# Altium integrated library stratos.IntLib: 36 symbols (part 1 of 2)
Pins are listed as number, name and electrical type; pins without a type are passive.

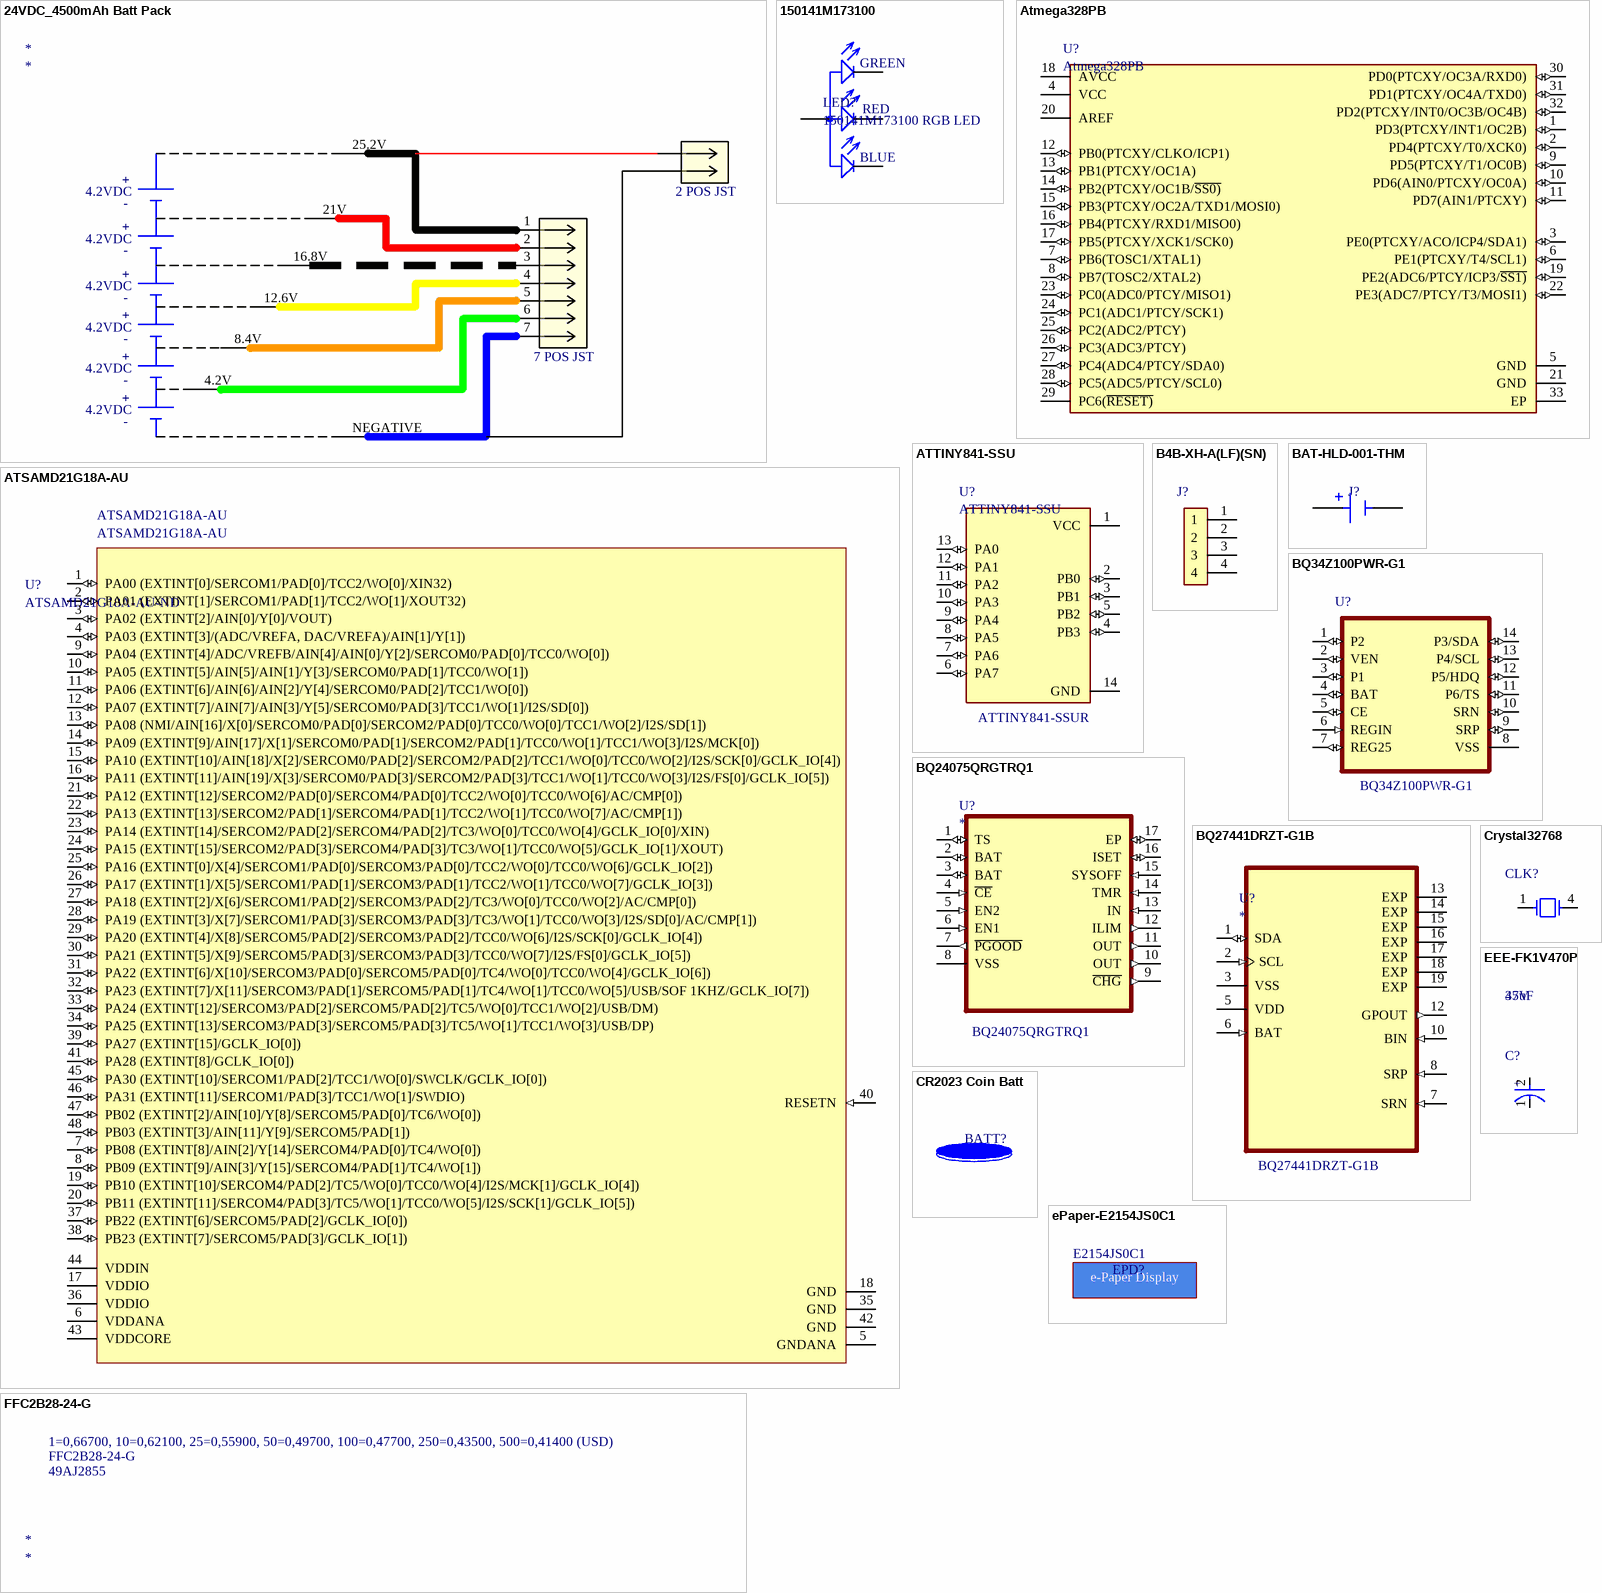
[diagram p0: symbols 24VDC_4500mAh Batt Pack to FFC2B28-24-G]

## 24VDC_4500mAh Batt Pack
designator *
pins: 1, 2, 3, 4, 4.2V, 5, 6, 7, 8, 8.4V, 9, 12.6V, 16.8V, 21V, 25.2V, NEGATIVE
text: +; 4.2VDC; 2 POS JST; -; 7 POS JST

## 150141M173100
designator LED?, comment 150141M173100 RGB LED
Standard LEDs - SMD WL-SFTW SMDBiClr Top WL-SFTW; Manufacturer: Wurth Electronics; Color: Blue,Green,Red; Viewing Angle: 120°; Lens Style: Clear,Round; Wavelength: 470nm; Forward Current: 30mA; Luminous Intensity: 230mcd; Test Current: 20mA; Forward Voltage: 3.2V; Supplier 1: Digi-Key; RoHS: Yes; Category: LEDs; Stock 1: 32966; Mount: Surface Mount; Case/Package: 1411; Number of Pins: 4; Case Code (Metric): 3528; Case Code (Imperial): 1411; Min Operating Temperature: -40°C; Max Operating Temperature: 85°C; Package Quantity: 2000; Packaging: Tape and Reel; Dominant Wavelength: 470nm; Length: 3.5mm; Width: 2.8mm; Height: 1.9mm; REACH SVHC: Unknown; RoHS Compliant: Yes; ComponentLink1URL: https://datasheet.ciiva.com/29562/150141m173100-29562961.pdf?src-supplier=Digi-Key; ComponentLink1Description: https://datasheet.ciiva.com/29562/150141m173100-29562961.pdf?src-supplier=Digi-Key; ComponentLink2URL: https://datasheet.ciiva.com/29278/759471-da-01-en-smd-topled-rgb-150141m173100-29278963.pdf?src-supplier=Conrad; ComponentLink2Description: https://datasheet.ciiva.com/29278/759471-da-01-en-smd-topled-rgb-150141m173100-29278963.pdf?src-supplier=Conrad; ComponentLink3URL: https://datasheet.ciiva.com/22653/1911491-22653029.pdf?src-supplier=Element14; ComponentLink3Description: https://datasheet.ciiva.com/22653/1911491-22653029.pdf?src-supplier=Element14; Supplier Part Number 1: 732-4998-1-ND; Manufacturer Part Number: 150141M173100; Pricing 1: 1=0,47000, 50=0,45900, 100=0,40000, 500=0,33300 (USD); Link: https://www.digikey.com/en/products/detail/w%C3%BCrth-elektronik/150141M173100/4489960?s=N4IgTCBcDaIIwFYAMcAscCycDsBmOSSIAugL5A
footprint 150141M173100 (RGB LED 3528 SMD)
pins: 1 A, 2 B_C, 3 R_C, 4 G_C
text: GREEN; RED; BLUE

## Atmega328PB
designator U?
IC MCU 8BIT 32KB FLASH 32VFQFN; Manufacturer: Microchip; Manufacturer Part Number: ATMEGA328PB-MUR; Supplier 1: Avnet; RoHS: Yes; Category: Microcontrollers; Stock 1: 58; RoHS Compliant: Yes; ComponentLink1URL: http://ww1.microchip.com/downloads/en/DeviceDoc/40001907A.pdf?src-supplier=Farnell; ComponentLink1Description: http://ww1.microchip.com/downloads/en/DeviceDoc/40001907A.pdf?src-supplier=Farnell; ComponentLink2URL: http://ww1.microchip.com/downloads/en/DeviceDoc/40001907A.pdf?src-supplier=Newark; ComponentLink2Description: http://ww1.microchip.com/downloads/en/DeviceDoc/40001907A.pdf?src-supplier=Newark; ComponentLink3URL: http://www.microchip.com/mymicrochip/filehandler.aspx?ddocname=en589666&src-supplier=Digi-Key; ComponentLink3Description: http://www.microchip.com/mymicrochip/filehandler.aspx?ddocname=en589666&src-supplier=Digi-Key; Pricing 1: 1=1,33000, 25=1,22000, 100=1,11000 (USD); Supplier Part Number 1: 41AH8334; Link: https://www.digikey.com/es/products/detail/microchip-technology/ATMEGA328PB-MUR/5638755?s=N4IgjCBcoLQExVAYygFwE4FcCmAaEA9lANogCsIAugL7X4KSkCCAKgLICiA4kwMxwAOAAoAhKtSA
footprint Atmega328PB
pins: 1 PD3(PTCXY/INT1/OC2B) (io), 2 PD4(PTCXY/T0/XCK0) (io), 3 PE0(PTCXY/ACO/ICP4/SDA1) (io), 4 VCC (power), 5 GND (power), 6 PE1(PTCXY/T4/SCL1) (io), 7 PB6(TOSC1/XTAL1) (io), 8 PB7(TOSC2/XTAL2) (io), 9 PD5(PTCXY/T1/OC0B) (io), 10 PD6(AIN0/PTCXY/OC0A) (io), 11 PD7(AIN1/PTCXY) (io), 12 PB0(PTCXY/CLKO/ICP1) (io), 13 PB1(PTCXY/OC1A) (io), 14 PB2(PTCXY/OC1B/~{SS0)} (io), 15 PB3(PTCXY/OC2A/TXD1/MOSI0) (io), 16 PB4(PTCXY/RXD1/MISO0) (io), 17 PB5(PTCXY/XCK1/SCK0) (io), 18 AVCC (power), 19 PE2(ADC6/PTCY/ICP3/~{SS1)} (io), 20 AREF (power), 21 GND (power), 22 PE3(ADC7/PTCY/T3/MOSI1) (io), 23 PC0(ADC0/PTCY/MISO1) (io), 24 PC1(ADC1/PTCY/SCK1) (io), 25 PC2(ADC2/PTCY) (io), 26 PC3(ADC3/PTCY) (io), 27 PC4(ADC4/PTCY/SDA0) (io), 28 PC5(ADC5/PTCY/SCL0) (io), 29 PC6(~{RESET)}, 30 PD0(PTCXY/OC3A/RXD0) (io), 31 PD1(PTCXY/OC4A/TXD0) (io), 32 PD2(PTCXY/INT0/OC3B/OC4B) (io), 33 EP (power)

## ATSAMD21G18A-AU
designator U?, comment ATSAMD21G18A-AU-ND  Supplier Part Number 1: ATSAMD21G18A-AU
CORTEX-M0+, 256KB Flash, 32KB SRAM, Usb, Dma, T&r - 48TQFP Ind Temp, Green, 1.6-3.6V, 48MHZ; Manufacturer: Microchip / Atmel; Interface: I2C,SPI,UART,USART,LIN,USB,I2S; Number of I/Os: 38; Oscillator Type: Internal; Peripherals: Brown-out Detect/Reset,POR,PWM,WDT,DMA; Core Architecture: ARM; Number of Timers/Counters: 6; Min Supply Voltage: 1.62V; Max Supply Voltage: 3.63V; Data Bus Width: 32b; Watchdog Timer: Yes; Operating Supply Voltage: 3.3V; Supplier 1: Arrow Electronics; RoHS: Yes; Category: Microcontrollers; Mount: Surface Mount; Case/Package: TQFP; Number of Pins: 48; Contact Plating: Tin,Matte; Min Operating Temperature: -40°C; Max Operating Temperature: 85°C; Packaging: Tray; Frequency: 48MHz; Memory Type: FLASH; Memory Size: 256KB; RAM Size: 32KB; Number of Programmable I/O: 38; Max Frequency: 48MHz; RoHS Compliant: Yes; REACH SVHC: No SVHC; Lead Free: Lead Free; ComponentLink1URL: https://datasheet.ciiva.com/46427/1807566-46427631.pdf?src-supplier=Element14; ComponentLink1Description: https://datasheet.ciiva.com/46427/1807566-46427631.pdf?src-supplier=Element14; Link: https://www.digikey.com/en/products/detail/microchip-technology/ATSAMD21G18A-AU/5056473; Manufacturer Part Number: ATSAMD21G18A-AU
footprint ATSAMD21G18A-AU-ND (IC MCU 32BIT 256KB FLASH 48TQFP)
pins: 1 PA00 (EXTINT[0]/SERCOM1/PAD[0]/TCC2/WO[0]/XIN32) (io), 2 PA01 (EXTINT[1]/SERCOM1/PAD[1]/TCC2/WO[1]/XOUT32) (io), 3 PA02 (EXTINT[2]/AIN[0]/Y[0]/VOUT) (io), 4 PA03 (EXTINT[3]/(ADC/VREFA, DAC/VREFA)/AIN[1]/Y[1]) (io), 5 GNDANA (power) "Ground for the analog power domain", 6 VDDANA (power) "Analog supply voltage", 7 PB08 (EXTINT[8]/AIN[2]/Y[14]/SERCOM4/PAD[0]/TC4/WO[0]) (io), 8 PB09 (EXTINT[9]/AIN[3]/Y[15]/SERCOM4/PAD[1]/TC4/WO[1]) (io), 9 PA04 (EXTINT[4]/ADC/VREFB/AIN[4]/AIN[0]/Y[2]/SERCOM0/PAD[0]/TCC0/WO[0]) (io), 10 PA05 (EXTINT[5]/AIN[5]/AIN[1]/Y[3]/SERCOM0/PAD[1]/TCC0/WO[1]) (io), 11 PA06 (EXTINT[6]/AIN[6]/AIN[2]/Y[4]/SERCOM0/PAD[2]/TCC1/WO[0]) (io), 12 PA07 (EXTINT[7]/AIN[7]/AIN[3]/Y[5]/SERCOM0/PAD[3]/TCC1/WO[1]/I2S/SD[0]) (io), 13 PA08 (NMI/AIN[16]/X[0]/SERCOM0/PAD[0]/SERCOM2/PAD[0]/TCC0/WO[0]/TCC1/WO[2]/I2S/SD[1]) (io), 14 PA09 (EXTINT[9]/AIN[17]/X[1]/SERCOM0/PAD[1]/SERCOM2/PAD[1]/TCC0/WO[1]/TCC1/WO[3]/I2S/MCK[0]) (io), 15 PA10 (EXTINT[10]/AIN[18]/X[2]/SERCOM0/PAD[2]/SERCOM2/PAD[2]/TCC1/WO[0]/TCC0/WO[2]/I2S/SCK[0]/GCLK_IO[4]) (io), 16 PA11 (EXTINT[11]/AIN[19]/X[3]/SERCOM0/PAD[3]/SERCOM2/PAD[3]/TCC1/WO[1]/TCC0/WO[3]/I2S/FS[0]/GCLK_IO[5]) (io), 17 VDDIO (power) "Digital supply voltage", 18 GND (power) "Ground", 19 PB10 (EXTINT[10]/SERCOM4/PAD[2]/TC5/WO[0]/TCC0/WO[4]/I2S/MCK[1]/GCLK_IO[4]) (io), 20 PB11 (EXTINT[11]/SERCOM4/PAD[3]/TC5/WO[1]/TCC0/WO[5]/I2S/SCK[1]/GCLK_IO[5]) (io), 21 PA12 (EXTINT[12]/SERCOM2/PAD[0]/SERCOM4/PAD[0]/TCC2/WO[0]/TCC0/WO[6]/AC/CMP[0]) (io), 22 PA13 (EXTINT[13]/SERCOM2/PAD[1]/SERCOM4/PAD[1]/TCC2/WO[1]/TCC0/WO[7]/AC/CMP[1]) (io), 23 PA14 (EXTINT[14]/SERCOM2/PAD[2]/SERCOM4/PAD[2]/TC3/WO[0]/TCC0/WO[4]/GCLK_IO[0]/XIN) (io), 24 PA15 (EXTINT[15]/SERCOM2/PAD[3]/SERCOM4/PAD[3]/TC3/WO[1]/TCC0/WO[5]/GCLK_IO[1]/XOUT) (io), 25 PA16 (EXTINT[0]/X[4]/SERCOM1/PAD[0]/SERCOM3/PAD[0]/TCC2/WO[0]/TCC0/WO[6]/GCLK_IO[2]) (io), 26 PA17 (EXTINT[1]/X[5]/SERCOM1/PAD[1]/SERCOM3/PAD[1]/TCC2/WO[1]/TCC0/WO[7]/GCLK_IO[3]) (io), 27 PA18 (EXTINT[2]/X[6]/SERCOM1/PAD[2]/SERCOM3/PAD[2]/TC3/WO[0]/TCC0/WO[2]/AC/CMP[0]) (io), 28 PA19 (EXTINT[3]/X[7]/SERCOM1/PAD[3]/SERCOM3/PAD[3]/TC3/WO[1]/TCC0/WO[3]/I2S/SD[0]/AC/CMP[1]) (io), 29 PA20 (EXTINT[4]/X[8]/SERCOM5/PAD[2]/SERCOM3/PAD[2]/TCC0/WO[6]/I2S/SCK[0]/GCLK_IO[4]) (io), 30 PA21 (EXTINT[5]/X[9]/SERCOM5/PAD[3]/SERCOM3/PAD[3]/TCC0/WO[7]/I2S/FS[0]/GCLK_IO[5]) (io), 31 PA22 (EXTINT[6]/X[10]/SERCOM3/PAD[0]/SERCOM5/PAD[0]/TC4/WO[0]/TCC0/WO[4]/GCLK_IO[6]) (io), 32 PA23 (EXTINT[7]/X[11]/SERCOM3/PAD[1]/SERCOM5/PAD[1]/TC4/WO[1]/TCC0/WO[5]/USB/SOF 1KHZ/GCLK_IO[7]) (io), 33 PA24 (EXTINT[12]/SERCOM3/PAD[2]/SERCOM5/PAD[2]/TC5/WO[0]/TCC1/WO[2]/USB/DM) (io), 34 PA25 (EXTINT[13]/SERCOM3/PAD[3]/SERCOM5/PAD[3]/TC5/WO[1]/TCC1/WO[3]/USB/DP) (io), 35 GND (power) "Ground", 36 VDDIO (power) "Digital supply voltage", 37 PB22 (EXTINT[6]/SERCOM5/PAD[2]/GCLK_IO[0]) (io), 38 PB23 (EXTINT[7]/SERCOM5/PAD[3]/GCLK_IO[1]) (io), 39 PA27 (EXTINT[15]/GCLK_IO[0]) (io), 40 RESETN (in) "Reset pin", 41 PA28 (EXTINT[8]/GCLK_IO[0]) (io), 42 GND (power) "Ground", 43 VDDCORE (power) "Core supply voltage / external decoupling pin", 44 VDDIN (power), 45 PA30 (EXTINT[10]/SERCOM1/PAD[2]/TCC1/WO[0]/SWCLK/GCLK_IO[0]) (io), 46 PA31 (EXTINT[11]/SERCOM1/PAD[3]/TCC1/WO[1]/SWDIO) (io), 47 PB02 (EXTINT[2]/AIN[10]/Y[8]/SERCOM5/PAD[0]/TC6/WO[0]) (io), 48 PB03 (EXTINT[3]/AIN[11]/Y[9]/SERCOM5/PAD[1]) (io)

## ATTINY841-SSU
designator U?  Manufacturer Part Number: ATTINY841-SSUR
MCU 8-bit ATtiny AVR CISC 8KB Flash 1.8V/2.5V/3.3V/5V 14-Pin SOIC W T/R; Manufacturer: Microchip / Atmel; Interface: I2C,SPI,UART,USART; Number of I/Os: 12; Frequency: 16MHz; Oscillator Type: Internal; Peripherals: PWM; Min Supply Voltage: 1.7V; Max Supply Voltage: 5.5V; RAM Size: 512B; Number of Timers/Counters: 3; Data Bus Width: 8b; Watchdog Timer: Yes; Supplier 1: Avnet; RoHS: Yes; Category: Microcontrollers; Stock 1: 348; Mount: Surface Mount; Case/Package: SOIC; Number of Pins: 14; Contact Plating: Tin,Matte; Weight: 0.011923oz; Min Operating Temperature: -40°C; Max Operating Temperature: 85°C; Packaging: Tape and Reel; Memory Type: FLASH; Memory Size: 8KB; Core Architecture: AVR; Package Quantity: 3000; Number of Programmable I/O: 12; Max Frequency: 16MHz; RoHS Compliant: Yes; REACH SVHC: No SVHC; ComponentLink1URL: https://datasheet.ciiva.com/29721/4099r-832bitmcuprodguide-e-us-090513-online-29721855.pdf?src-supplier=Digi-Key; ComponentLink1Description: https://datasheet.ciiva.com/29721/4099r-832bitmcuprodguide-e-us-090513-online-29721855.pdf?src-supplier=Digi-Key; Supplier Part Number 1: 41AH8366; Pricing 1: 1=1,03000 (USD); Link: https://www.digikey.com/es/products/detail/microchip-technology/ATTINY841-SSUR/4437427?s=N4IgTCBcDaIIIBUEEkByBNAHAFgIwFoBlQgVQCUQBdAXyA
footprint ATTINY841-SSU (IC MCU 8BIT 8KB FLASH 14SOIC)
pins: 1 VCC (power), 2 PB0 (io), 3 PB1 (io), 4 PB3 (io), 5 PB2 (io), 6 PA7 (io), 7 PA6 (io), 8 PA5 (io), 9 PA4 (io), 10 PA3 (io), 11 PA2 (io), 12 PA1 (io), 13 PA0 (io), 14 GND (power)

## B4B-XH-A(LF)(SN)
designator J?
JST (JAPAN SOLDERLESS TERMINALS) - B4B-XH-A (LF)(SN) - Wire-To-Board Connector, Vertical, 2.5 mm, 4 Contacts, Header, XH Series, Through Hole, 1 Rows; Insulation Resistance: 1GR; Current Rating: 3A; Contact Resistance: 20mR; Gender: Male; Number of Positions: 4; Max Voltage Rating (AC): 250V; Connector Type: Male Pin; Pitch: 2.5mm; Wire/Cable Gauge: 22AWG; Supplier 1: Arrow Electronics; Manufacturer: JST; RoHS: Yes; Category: FFC / FPC; Mount: Through Hole; Contact Plating: Tin,Copper,Lead; Contact Material: Brass; Color: Natural; Housing Material: Polyamide; Housing Color: White; Material: Polyamide; Min Operating Temperature: -25°C; Max Operating Temperature: 85°C; Termination: Press-Fit; Series: XH; Number of Rows: 1; Packaging: Bulk; Orientation: Straight; Max Current Rating: 3A; Package Quantity: 500; Number of Contacts: 4; Contact Type: Male Pin; Voltage Rating (AC): 250V; Voltage Rating: 250V; Max Voltage Rating (DC): 250V; Length: 12.4mm; Depth: 5.75mm; Lead Pitch: 2.5mm; REACH SVHC: No SVHC; Lead Free: Lead Free; ComponentLink1URL: https://datasheet.ciiva.com/26894/getdatasheetpartid-455616-26894787.pdf?src-supplier=Verical; ComponentLink1Description: https://datasheet.ciiva.com/26894/getdatasheetpartid-455616-26894787.pdf?src-supplier=Verical; ComponentLink2URL: https://datasheet.ciiva.com/16203/b4b-xh-alfsn-16203642.pdf?src-supplier=Future+Electronics; ComponentLink2Description: https://datasheet.ciiva.com/16203/b4b-xh-alfsn-16203642.pdf?src-supplier=Future+Electronics; ComponentLink3URL: https://datasheet.ciiva.com/26924/getdatasheetpartid-640571-26924035.pdf?src-supplier=Verical; ComponentLink3Description: https://datasheet.ciiva.com/26924/getdatasheetpartid-640571-26924035.pdf?src-supplier=Verical; ComponentLink4URL: https://datasheet.ciiva.com/726/exh-726404.pdf?src-supplier=Digi-Key; ComponentLink4Description: https://datasheet.ciiva.com/726/exh-726404.pdf?src-supplier=Digi-Key; Manufacturer Part Number: B4B-XH-A(LF)(SN); Supplier Part Number 1: B4B-XH-A (LF)(SN); Link: https://www.digikey.com/es/products/detail/jst-sales-america-inc/B4B-XH-A-LF-SN/1651047?s=N4IgTCBcDaIEIBY4FoAaAJZBBAFAGQDEBKHAZQDkiQBdAXyA
footprint B4B-XH-A(LF)(SN) (CONN HEADER VERT 4POS 2.5MM)
pins: 1, 2, 3, 4

## BAT-HLD-001-THM
designator J?
BATTERY RETAINER COIN PC PIN; Manufacturer: Linx; Manufacturer Part Number: BAT-HLD-001-THM; Number of Cells: 1; Supplier 1: Digi-Key; RoHS: Yes; Category: Uncategorized; Stock 1: 22994; Mount: Through Hole,PCB; Package Quantity: 1000; Termination: PC Pin; Series: -; Packaging: Bulk; Lead Free: Lead Free; ComponentLink1URL: https://datasheet.ciiva.com/4/bat-hld-001-thm-4036.pdf?src-supplier=Digi-Key; ComponentLink1Description: https://datasheet.ciiva.com/4/bat-hld-001-thm-4036.pdf?src-supplier=Digi-Key; ComponentLink2URL: https://datasheet.ciiva.com/4642/bat-hld-001-thm20diagram-201675-4642582.pdf?src-supplier=Mouser; ComponentLink2Description: https://datasheet.ciiva.com/4642/bat-hld-001-thm20diagram-201675-4642582.pdf?src-supplier=Mouser; Pricing 1: 1=0,29000, 10=0,27800, 25=0,26600, 100=0,24100, 250=0,23200, 500=0,22200, 1000=0,20300, 2000=0,19000, 5000=0,17600 (USD); Supplier Part Number 1: BAT-HLD-001-THM-ND; Link: https://www.digikey.com/es/products/detail/linx-technologies-inc/BAT-HLD-001-THM/3044009?s=N4IgTCBcDaIEIEEAqBaAEgGQCIoAy4EYUk0BZEAXQF8g
footprint BAT-HLD-001-THM (BATTERY RETAINER COIN PC PIN)
pins: N, P1 P, P2 P, P3 P, P4 P

## BQ34Z100PWR-G1
designator U?  Manufacturer Part Number: BQ34Z100PWR-G1
IC BATT MGMT LIION/LPO4 14TSSOP; Manufacturer: Texas Instruments; Interface: I2C; Operating Supply Voltage: 4.5V; Supplier 1: Digi-Key; RoHS: Yes; Category: Battery Management; Mount: Surface Mount; Case/Package: TSSOP; Number of Pins: 14; Contact Plating: Gold; Weight: 0.004949oz; Min Operating Temperature: -40°C; Max Operating Temperature: 85°C; Packaging: Tape and Reel; Package Quantity: 2000; Lead Free: Lead Free; RoHS Compliant: Yes; ComponentLink1URL: http://www.ti.com/lit/ds/symlink/bq34z100-g1.pdf?src-supplier=Digi-Key; ComponentLink1Description: http://www.ti.com/lit/ds/symlink/bq34z100-g1.pdf?src-supplier=Digi-Key; ComponentLink2URL: http://www.ti.com/general/docs/lit/getliterature.tsp?genericPartNumber=BQ34Z100-G1&&fileType=pdf&src-supplier=Avnet; ComponentLink2Description: http://www.ti.com/general/docs/lit/getliterature.tsp?genericPartNumber=BQ34Z100-G1&&fileType=pdf&src-supplier=Avnet; ComponentLink3URL: http://www.ti.com/lit/gpn/bq34z100-g1?src-supplier=Mouser; ComponentLink3Description: http://www.ti.com/lit/gpn/bq34z100-g1?src-supplier=Mouser; Supplier Part Number 1: 296-39949-6-ND; Pricing 1: 1=4,33000, 10=3,88500, 25=3,67280, 100=3,18320, 250=3,01992, 500=2,70978, 1000=2,69500 (USD); Link: https://www.digikey.com/en/products/detail/texas-instruments/BQ34Z100PWR-G1/5140731?s=N4IgTCBcDaIEIEUDMAWAWgRgAxYAoHUAlAWgHEMQBdAXyA
footprint BQ34Z100PWR-G1 (Fuel Gauge)
pins: 1 P2 (io), 2 VEN (io), 3 P1 (io), 4 BAT (io), 5 CE (io), 6 REGIN (in), 7 REG25 (io), 8 VSS (power), 9 SRP (io), 10 SRN (io), 11 P6/TS (io), 12 P5/HDQ (io), 13 P4/SCL (io), 14 P3/SDA (io)

## BQ24075QRGTRQ1
designator U?  Manufacturer Part Number: BQ24075QRGTRQ1
IC BATTERY MGMT LI-ION 16-QFN; Manufacturer: Texas Instruments; Output Voltage: 4.2V; Max Supply Voltage: 6.4V; Output Current: 1.5A; Number of Cells: 1; Interface: USB; Fault Protection: Over Voltage,Over Temperature,Short Circuit,Reverse Current; Battery Chemistry: LITHIUM-ION; Supplier 1: Digi-Key; RoHS: Yes; Category: Battery Management; Mount: Surface Mount; Case/Package: QFN; Number of Pins: 16; Contact Plating: Gold; Min Operating Temperature: -40°C; Max Operating Temperature: 125°C; Packaging: Tape and Reel; Package Quantity: 3000; Max Charge Current: 1.5A; Battery Pack Voltage: 4.2V; Series: -; Lead Free: Lead Free; RoHS Compliant: Yes; ComponentLink1URL: https://datasheet.ciiva.com/29609/bq24075-q1-29609824.pdf?src-supplier=Digi-Key; ComponentLink1Description: https://datasheet.ciiva.com/29609/bq24075-q1-29609824.pdf?src-supplier=Digi-Key; ComponentLink2URL: https://datasheet.ciiva.com/12237/slusau3b-128558-12237294.pdf?src-supplier=Mouser; ComponentLink2Description: https://datasheet.ciiva.com/12237/slusau3b-128558-12237294.pdf?src-supplier=Mouser; Supplier Part Number 1: 296-36557-1-ND; Pricing 1: 1=2,87000, 10=2,58100, 25=2,43520, 100=2,07490, 250=1,94828, 500=1,70474, 1000=1,60825 (USD); Link: https://www.digikey.com/en/products/detail/BQ24075QRGTRQ1/296-36557-1-ND/4341266?itemSeq=375639473
footprint BQ24075QRGTRQ1 (Charger IC Lithium Ion 16-VQFN (3x3))
pins: 1 TS (io), 2 BAT (io), 3 BAT (io), 4 ~{CE} (in), 5 EN2 (in), 6 EN1 (in), 7 ~{PGOOD} (out), 8 VSS (power), 9 ~{CHG} (out), 10 OUT (out), 11 OUT (out), 12 ILIM (out), 13 IN (in), 14 TMR (in), 15 SYSOFF (in), 16 ISET (io), 17 EP (io)

## BQ27441DRZT-G1B
designator U?  Manufacturer Part Number: BQ27441DRZT-G1B
TEXAS INSTRUMENTS - BQ27441DRZT-G1B - Li-Ion, LiMn2PO4 Battery Fuel Gauge, 2.45 V to 4.5 V supply, I2C interface, SON-12; Number of Cells: 1; Min Supply Voltage: 2.45V; Max Supply Voltage: 4.5V; Output Voltage: 1.8V; Operating Supply Current: 93uA; Capacity: 8000mAh; Output Current: 500uA; Supplier 1: Digi-Key; Manufacturer: Texas Instruments; RoHS: Yes; Category: Battery Management; Stock 1: 1013; Mount: Surface Mount; Number of Pins: 12; Contact Plating: Gold; Min Operating Temperature: -40°C; Max Operating Temperature: 85°C; Package Quantity: 250; Packaging: Tape and Reel; Interface: I2C; REACH SVHC: No SVHC; Lead Free: Lead Free; RoHS Compliant: Yes; ComponentLink1URL: https://datasheet.ciiva.com/46405/1795843-46405045.pdf?src-supplier=Element14; ComponentLink1Description: https://datasheet.ciiva.com/46405/1795843-46405045.pdf?src-supplier=Element14; Link: https://www.digikey.com/en/products/detail/BQ27441DRZT-G1B/296-37272-1-ND/4733021?itemSeq=375639468; Pricing 1: 1=3,10000, 10=2,78700, 25=2,62880, 100=2,23970 (USD); Supplier Part Number 1: 296-37272-1-ND
footprint BQ27441DRZT-G1B (IC FUEL GAUGE LI-ION 1CELL 12SON)
pins: 1 SDA (io), 2 SCL (in), 3 VSS (power), 5 VDD (power), 6 BAT (in), 7 SRN (in), 8 SRP (in), 10 BIN (in), 12 GPOUT (out), 13 EXP (power), 14 EXP (power), 15 EXP (power), 16 EXP (power), 17 EXP (power), 18 EXP (power), 19 EXP (power)

## CR2023 Coin Batt
designator BATT?
CR2032 Series Ø 20 mm 3V 225mAh Non-Rechargeable Lithium Coin Cell Battery; Manufacturer: Panasonic BSG; Number of Cells: 1; Battery Size: 2032; Battery Type: PRIMARY; Supplier 1: Mouser; RoHS: Yes; Category: Passive Components; Mount: External; Weight: 0.1oz; Material: Lithium; Min Operating Temperature: -30°C; Max Operating Temperature: 60°C; Package Quantity: 200; Capacity: 225mAh; Packaging: Tray; Series: CR2032; Chemistry/Technology: Lithium; Voltage Rating: 3V; Battery Chemistry: LITHIUM; Output Voltage: 3V; Voltage: 3V; Voltage Rating (DC): 3V; Diameter: 20mm; Height: 0.13inch; Radiation Hardening: No; Lead Free: Lead Free; RoHS Compliant: Yes; ComponentLink1URL: https://datasheet.ciiva.com/2/crseries-datasheets-merged-2903.pdf?src-supplier=Digi-Key; ComponentLink1Description: https://datasheet.ciiva.com/2/crseries-datasheets-merged-2903.pdf?src-supplier=Digi-Key; ComponentLink2URL: https://datasheet.ciiva.com/2981/aaa4000ce51-2981326.pdf?src-supplier=Avnet; ComponentLink2Description: https://datasheet.ciiva.com/2981/aaa4000ce51-2981326.pdf?src-supplier=Avnet; ComponentLink3URL: https://datasheet.ciiva.com/12070/crseries-datasheets-merged-462862-12070381.pdf?src-supplier=Mouser; ComponentLink3Description: https://datasheet.ciiva.com/12070/crseries-datasheets-merged-462862-12070381.pdf?src-supplier=Mouser; ComponentLink4URL: https://datasheet.ciiva.com/16459/aaa4000ce51-16459422.pdf?src-supplier=Avnet+Asia; ComponentLink4Description: https://datasheet.ciiva.com/16459/aaa4000ce51-16459422.pdf?src-supplier=Avnet+Asia; Pricing 1: 1=0,34000, 10=0,28100, 50=0,28100, 100=0,21700, 1000=0,19500, 10000=0,18100 (USD); Supplier Part Number 1: 658-CR2032; Manufacturer Part Number: CR2032; Link: https://www.digikey.com/es/products/detail/maxell-batteries/MAXELL-CR2032-TS-1/13283094
footprint CR2032 BATT (CR2032 Coin batt)

## Crystal32768
designator CLK?
Crystal 0.032768MHz ±20ppm (Tol) 6pF Flexural 50000Ohm 4-Pin SMD T/R; Manufacturer: Citizen; Manufacturer Part Number: CM200C32768DZBT; ESR (Equivalent Series Resistance): 50R; Frequency: 32.768kHz; Capacitance: 6E-12F; Supplier 1: Digi-Key; RoHS: Yes; Category: Crystals; Stock 1: 43050; Number of Pins: 4; Min Operating Temperature: -40°C; Max Operating Temperature: 85°C; Load Capacitance: 6pF; Frequency Tolerance: 20ppm; Resistance: 50R; Lead Free: Lead Free; RoHS Compliant: Yes; ComponentLink1URL: https://media.digikey.com/pdf/Data%20Sheets/Citizen%20PDFs/KHz_Crystal_PNG.pdf?src-supplier=Digi-Key; ComponentLink1Description: https://media.digikey.com/pdf/Data%20Sheets/Citizen%20PDFs/KHz_Crystal_PNG.pdf?src-supplier=Digi-Key; ComponentLink2URL: http://cfd.citizen.co.jp/english/prod-tech/product/pdf/datasheet_TF/CM200C_CM250C_E.pdf?src-supplier=Digi-Key; ComponentLink2Description: http://cfd.citizen.co.jp/english/prod-tech/product/pdf/datasheet_TF/CM200C_CM250C_E.pdf?src-supplier=Digi-Key; ComponentLink3URL: http://www.farnell.com/datasheets/2687884.pdf?src-supplier=Newark; ComponentLink3Description: http://www.farnell.com/datasheets/2687884.pdf?src-supplier=Newark; Supplier Part Number 1: 300-8739-1-ND; Pricing 1: 1=0,79000, 10=0,66000, 50=0,59400, 100=0,52800, 500=0,50160, 1000=0,42240 (USD); Link: https://www.digikey.com/es/products/detail/citizen-finedevice-co-ltd/CM200C32768DZBT/2108108?s=N4IgTCBcDaIMIFkwAZlwMxgOwDYAcAIgFoBCAKiALoC%2BQA
footprint Crystal32768
pins: 1, 4

## EEE-FK1V470P
designator C?  Capacitance: 47uF  Voltage: 35V
Capacitor 47 uF 35 VDC, EEEFK1V470P, Panasonic Automotive & Industrial Systems; Dielectric Material: Aluminium; Tolerance: 20%; Ripple Current: 240mA; Polarity: Polar; Life (Hours): 2000Hour; ESR (Equivalent Series Resistance): 360mR; Leakage Current: 3uA; Supplier 1: Future Electronics; Manufacturer: Panasonic; RoHS: Yes; Category: Aluminum Electrolytic Capacitors; Stock 1: 165; Mount: Surface Mount,PCB; Case/Package: Radial; Number of Pins: 2; Material: Aluminium; Contact Plating: Tin; Min Operating Temperature: -55°C; Max Operating Temperature: 105°C; Packaging: Tape and Reel; Voltage Rating: 35V; Package Quantity: 1000; Termination: SMD/SMT; Ripple Current (AC): 240mA; Voltage Rating (DC): 35V; Series: FK; Construction: Cylindrical; Diameter: 6.3mm; Length: 5.8mm; Width: 7.8mm; Height: 5.8mm; Height - Seated (Max): 0.24inch; Radiation Hardening: No; RoHS Compliant: Yes; REACH SVHC: No SVHC; Lead Free: Lead Free; ComponentLink1URL: https://datasheet.ciiva.com/11777/0900766b80e4e8b0-11777384.pdf?src-supplier=RSComponents; ComponentLink1Description: https://datasheet.ciiva.com/11777/0900766b80e4e8b0-11777384.pdf?src-supplier=RSComponents; ComponentLink2URL: https://datasheet.ciiva.com/34302/1358354-34302248.pdf?src-supplier=Jameco; ComponentLink2Description: https://datasheet.ciiva.com/34302/1358354-34302248.pdf?src-supplier=Jameco; ComponentLink3URL: https://datasheet.ciiva.com/29313/443478-da-01-en-smd-elko-vfk-d-47-uf-35v-29313582.pdf?src-supplier=Conrad; ComponentLink3Description: https://datasheet.ciiva.com/29313/443478-da-01-en-smd-elko-vfk-d-47-uf-35v-29313582.pdf?src-supplier=Conrad; ComponentLink4URL: https://datasheet.ciiva.com/10327/aba0000ce120-10327226.pdf?src-supplier=Avnet; ComponentLink4Description: https://datasheet.ciiva.com/10327/aba0000ce120-10327226.pdf?src-supplier=Avnet; ComponentLink5URL: https://datasheet.ciiva.com/5949/1676921-5949767.pdf?src-supplier=Farnell; ComponentLink5Description: https://datasheet.ciiva.com/5949/1676921-5949767.pdf?src-supplier=Farnell; ComponentLink6URL: https://datasheet.ciiva.com/2983/aba0000ce120-2983977.pdf?src-supplier=Avnet; ComponentLink6Description: https://datasheet.ciiva.com/2983/aba0000ce120-2983977.pdf?src-supplier=Avnet; ComponentLink7URL: https://datasheet.ciiva.com/24022/aba0000ce120-24022141.pdf?src-supplier=Mouser; ComponentLink7Description: https://datasheet.ciiva.com/24022/aba0000ce120-24022141.pdf?src-supplier=Mouser; ComponentLink8URL: https://datasheet.ciiva.com/46388/1676921-46388169.pdf?src-supplier=Element14; ComponentLink8Description: https://datasheet.ciiva.com/46388/1676921-46388169.pdf?src-supplier=Element14; ComponentLink9URL: https://datasheet.ciiva.com/16449/aba0000ce120-16449455.pdf?src-supplier=Future+Electronics; ComponentLink9Description: https://datasheet.ciiva.com/16449/aba0000ce120-16449455.pdf?src-supplier=Future+Electronics; ComponentLink10URL: https://datasheet.ciiva.com/14592/70068178-14592806.pdf?src-supplier=Allied+Electronics; ComponentLink10Description: https://datasheet.ciiva.com/14592/70068178-14592806.pdf?src-supplier=Allied+Electronics; ComponentLink11URL: https://datasheet.ciiva.com/46376/1676921-46376749.pdf?src-supplier=Element14; ComponentLink11Description: https://datasheet.ciiva.com/46376/1676921-46376749.pdf?src-supplier=Element14; ComponentLink12URL: https://datasheet.ciiva.com/48524/fk-eng-tds-48524111.pdf?src-supplier=Distrelec; ComponentLink12Description: https://datasheet.ciiva.com/48524/fk-eng-tds-48524111.pdf?src-supplier=Distrelec; ComponentLink13URL: https://datasheet.ciiva.com/14605/70258115-14605496.pdf?src-supplier=Allied+Electronics; ComponentLink13Description: https://datasheet.ciiva.com/14605/70258115-14605496.pdf?src-supplier=Allied+Electronics; ComponentLink14URL: https://datasheet.ciiva.com/14608/70258115-14608444.pdf?src-supplier=Allied+Electronics; ComponentLink14Description: https://datasheet.ciiva.com/14608/70258115-14608444.pdf?src-supplier=Allied+Electronics; Link: https://www.digikey.com/es/products/detail/panasonic-electronic-components/EEE-FK1V470P/766010?s=N4IgTCBcDaIKIILQDEDSBGAagFgOwAYAFEAXQF8g; Supplier Part Number 1: 5098671; Manufacturer Part Number: EEEFK1V470P; Pricing 1: 1=0,42500, 50=0,32500, 100=0,30500, 250=0,29000, 500=0,27500 (USD); Impedance: 360mR
footprint EEE-FK1V470P (CAP ALUM 47UF 20% 35V SMD)
pins: 1 C, 2 A
text: +

## ePaper-E2154JS0C1
designator EPD?, comment E2154JS0C1
1.54" Epd, Spectra, W.itc; Manufacturer: Pervasive Displays; Supplier 1: Digi-Key; RoHS: No; Stock 1: 290; Pricing 1: 1=4,96000 (USD); Supplier Part Number 1: 1452-E2154JS0C1-ND; Link: https://www.digikey.com/en/products/detail/pervasive-displays/E2154JS0C1/13572395?s=N4IgTCBcDaIKJgIwFYAsApAygBgMKJAF0BfIA; Manufacturer Part Number: E2154JS0C1
text: e-Paper Display

## FFC2B28-24-G
designator *  Supplier Part Number 1: 49AJ2855  Manufacturer Part Number: FFC2B28-24-G  Pricing 1: 1=0,66700, 10=0,62100, 25=0,55900, 50=0,49700, 100=0,47700, 250=0,43500, 500=0,41400 (USD)
24W, 0.5MM Ffc Con, R/a, Dual Cont,; Manufacturer: Global Connector Technology; Supplier 1: Newark; RoHS: No; Stock 1: 3950

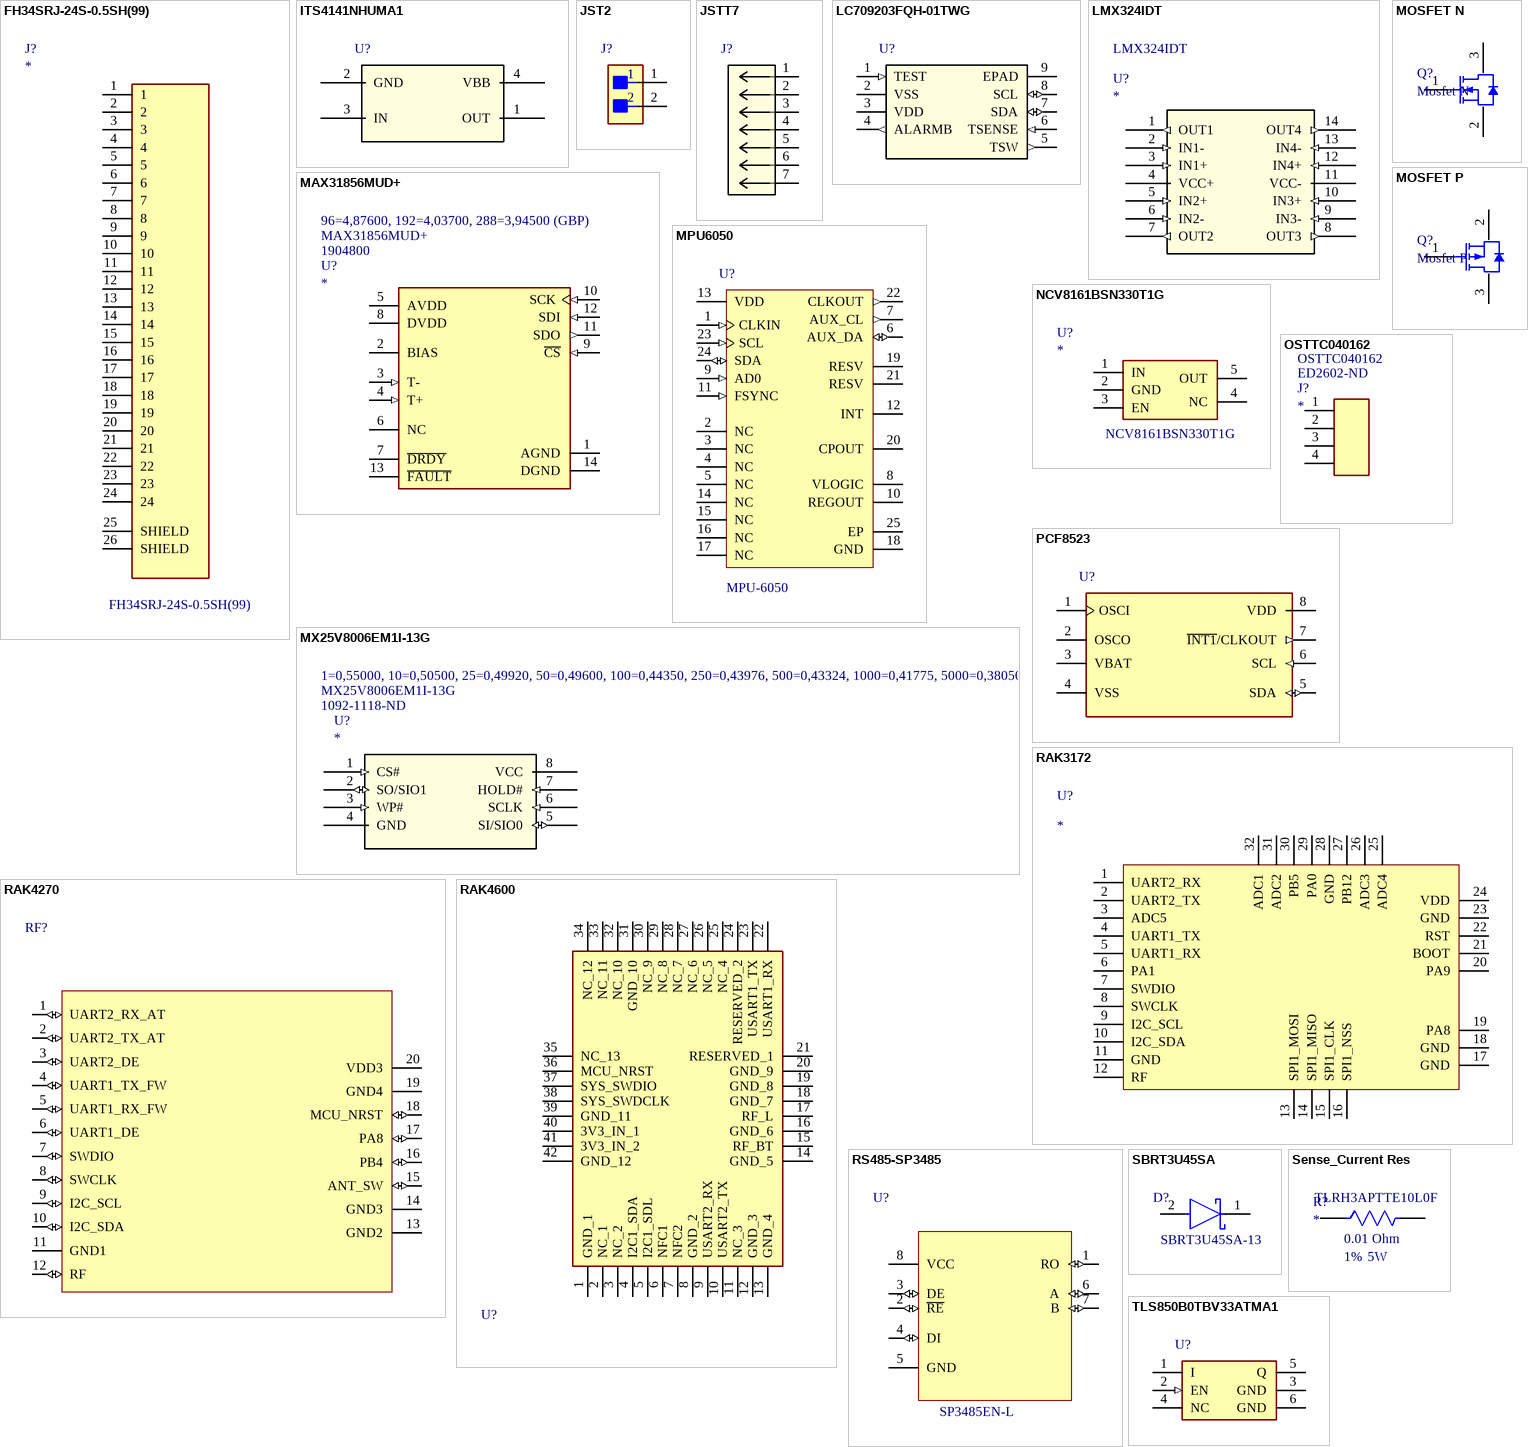
[diagram p1: symbols FH34SRJ-24S-0.5SH(99) to TLS850B0TBV33ATMA1]

## FH34SRJ-24S-0.5SH(99)
designator J?  Manufacturer Part Number: FH34SRJ-24S-0.5SH(99)
CONN FPC/FFC 24POS .5MM; Manufacturer: Hirose; Actuator Material: Nylon,Polyamide; Number of Positions: 24; Voltage Rating: 50V; Current Rating: 500mA; Pitch: 0.02inch; Supplier 1: RSComponents; RoHS: Yes; Category: Headers and Wire Housings; Stock 1: 450; Mount: Surface Mount; Number of Pins: 24; Contact Material: Bronze; Contact Plating: Gold; Housing Material: Polymer; Min Operating Temperature: -55°C; Max Operating Temperature: 85°C; Packaging: Tape and Reel; Termination: Solder; Flammability Rating: UL94 V-0; RoHS Compliant: Yes; ComponentLink1URL: https://www.hirose.com/product/en/download_file/key_name/FH34SRJ/category/Catalog/doc_file_id/31646/?file_category_id=4&item_id=27&is_series=1&src-supplier=Digi-Key; ComponentLink1Description: https://www.hirose.com/product/en/download_file/key_name/FH34SRJ/category/Catalog/doc_file_id/31646/?file_category_id=4&item_id=27&is_series=1&src-supplier=Digi-Key; Link: https://www.digikey.com/en/products/detail/FH34SRJ-24S-0.5SH(99)/H124725CT-ND/5156028?itemSeq=375639459; Pricing 1: 10=2,28000, 100=1,89000, 250=1,66000 (GBP); Supplier Part Number 1: 1362403P
footprint FH34SRJ-24S-0.5SH(99) (CONN FPC/FFC 24POS .5MM)
pins: 1, 2, 3, 4, 5, 6, 7, 8, 9, 10, 11, 12, 13, 14, 15, 16, 17, 18, 19, 20, 21, 22, 23, 24, 25 SHIELD, 26 SHIELD

## ITS4141NHUMA1
designator U?
IC SWITCH HISIDE SMART SOT223-4; Manufacturer: Infineon; Manufacturer Part Number: ITS4141NHUMA1; Number of Outputs: 1; Interface: On/Off; Fault Protection: Over Voltage,Over Temperature; Output Configuration: High Side; Max Output Current: 700mA; Supplier 1: Digi-Key; RoHS: Yes; Stock 1: 7213; Case/Package: TO-261-4; Min Operating Temperature: -30°C; Max Operating Temperature: 85°C; Packaging: Tape and Reel; Series: miniPROFET®; ComponentLink1URL: https://www.infineon.com/dgdl/Infineon-ITS4141N-DS-v01_01-en.pdf?folderId=db3a304412b407950112b408e8c90004&amp;fileId=db3a304412b407950112b429624b40d3&amp;ack=t&src-supplier=Digi-Key; ComponentLink1Description: https://www.infineon.com/dgdl/Infineon-ITS4141N-DS-v01_01-en.pdf?folderId=db3a304412b407950112b408e8c90004&amp;fileId=db3a304412b407950112b429624b40d3&amp;ack=t&src-supplier=Digi-Key; Supplier Part Number 1: ITS4141NHUMA1CT-ND; Pricing 1: 1=1,84000, 10=1,65100, 25=1,55720, 100=1,32660, 250=1,24568, 500=1,08996, 1000=0,94780 (USD); Link: https://www.digikey.com/es/products/detail/infineon-technologies/ITS4141NHUMA1/2081255?s=N4IgTCBcDaIJIBUDKAWAjOgcgCQKoFkBBNEAXQF8g
footprint ITS4141NHUMA1 (IC PWR SWTCH N-CHAN 1:1 SOT223-4)
footprint ITS4141NHUMA1 - L (IC PWR SWTCH N-CHAN 1:1 SOT223-4)
footprint ITS4141NHUMA1 - M (IC PWR SWTCH N-CHAN 1:1 SOT223-4)
pins: 1 OUT, 2 GND (power), 3 IN, 4 VBB (power)

## JST2
designator J?
Conn Shrouded Header (4 Sides) HDR 2 POS 2.5mm Solder ST Thru-Hole Box; Manufacturer: JST; Manufacturer Part Number: B2B-XH-A(LF)(SN); Number of Positions: 2; Connector Type: Male Pin; Contact Resistance: 20mR; Max Current Rating: 3A; Max Voltage Rating (AC): 250V; Insulation Resistance: 1GR; Wire/Cable Gauge: 22AWG; Supplier 1: Farnell; RoHS: Yes; Category: FFC / FPC; Stock 1: 212689; Mount: Through Hole; Contact Plating: Tin,Copper,Lead; Color: Natural; Contact Material: Brass; Housing Material: Polyamide; Housing Color: White; Min Operating Temperature: -25°C; Max Operating Temperature: 85°C; Termination: Solder; Number of Rows: 1; Packaging: Bulk; Series: XH; Contact Type: Male Pin; Fastening Type: Detent; Orientation: Straight; Current Rating: 3A; Voltage Rating: 250V; Voltage Rating (AC): 250V; Number of Contacts: 2; Max Voltage Rating (DC): 250V; Length: 7.4mm; Pitch: 2.5mm; Depth: 5.75mm; Lead Pitch: 2.5mm; Lead Free: Lead Free; REACH SVHC: No SVHC; ComponentLink1URL: https://datasheet.ciiva.com/26894/getdatasheetpartid-640357-26894434.pdf?src-supplier=Verical; ComponentLink1Description: https://datasheet.ciiva.com/26894/getdatasheetpartid-640357-26894434.pdf?src-supplier=Verical; ComponentLink2URL: https://datasheet.ciiva.com/26894/getdatasheetpartid-385291-26894760.pdf?src-supplier=Verical; ComponentLink2Description: https://datasheet.ciiva.com/26894/getdatasheetpartid-385291-26894760.pdf?src-supplier=Verical; ComponentLink3URL: https://datasheet.ciiva.com/11746/0900766b8082653e-11746979.pdf?src-supplier=RSComponents; ComponentLink3Description: https://datasheet.ciiva.com/11746/0900766b8082653e-11746979.pdf?src-supplier=RSComponents; ComponentLink4URL: https://datasheet.ciiva.com/20207/523653-20207167.pdf?src-supplier=Rapid+Electronics; ComponentLink4Description: https://datasheet.ciiva.com/20207/523653-20207167.pdf?src-supplier=Rapid+Electronics; ComponentLink5URL: https://datasheet.ciiva.com/8052/5448-8052024.pdf?src-supplier=Element14; ComponentLink5Description: https://datasheet.ciiva.com/8052/5448-8052024.pdf?src-supplier=Element14; Supplier Part Number 1: 1516276; Pricing 1: 100=0,06860, 1000=0,04800, 2500=0,04520, 5000=0,04230, 10000=0,03950, 20000=0,03660 (GBP); Link: https://www.digikey.com/es/products/detail/jst-sales-america-inc/B2B-XH-A-LF-SN/1651045?s=N4IgTCBcDaIEJjgWgBoAkkEEAUAZAYgJTYDKAcoSALoC%2BQA
footprint JST2 (CONN HEADER VERT 2POS 2.5MM)
pins: 1, 2

## JSTT7
designator J?
JST (JAPAN SOLDERLESS TERMINALS) - B7B-XH-A (LF)(SN) - HEADER, VERTICAL, 7WAY; Number of Positions: 7; Current Rating: 3A; Contact Resistance: 20mR; Insulation Resistance: 1GR; Voltage Rating (AC): 250V; Pitch: 2.5mm; Wire/Cable Gauge: 22AWG; Supplier 1: Farnell; Manufacturer: JST; Manufacturer Part Number: B7B-XH-A(LF)(SN); RoHS: Yes; Category: Headers and Wire Housings; Stock 1: 11788; Mount: Through Hole; Contact Plating: Copper,Tin,Lead; Color: Natural; Contact Material: Brass; Housing Material: Polyamide; Housing Color: White; Contact Shape: Square; Insulation Material: Nylon; Insulation Color: Natural; Contact Finish - Mating: TIN; Min Operating Temperature: -25°C; Max Operating Temperature: 85°C; Number of Rows: 1; Packaging: Bulk; Termination: Solder; Connector Type: Header; Series: XH; Contact Type: Male Pin; Fastening Type: Detent; Orientation: Straight; Voltage Rating: 250V; Max Current Rating: 3A; Number of Contacts: 7; Max Voltage Rating (AC): 250V; Length: 19.9mm; Lead Pitch: 2.5mm; Depth: 5.75mm; Lead Free: Lead Free; REACH SVHC: No SVHC; Flammability Rating: UL94 V-0; ComponentLink1URL: https://datasheet.ciiva.com/11747/0900766b80826551-11747681.pdf?src-supplier=RSComponents; ComponentLink1Description: https://datasheet.ciiva.com/11747/0900766b80826551-11747681.pdf?src-supplier=RSComponents; ComponentLink2URL: https://datasheet.ciiva.com/26894/getdatasheetpartid-440406-26894811.pdf?src-supplier=Verical; ComponentLink2Description: https://datasheet.ciiva.com/26894/getdatasheetpartid-440406-26894811.pdf?src-supplier=Verical; Supplier Part Number 1: 1516283; Pricing 1: 10=0,23500, 100=0,16500, 500=0,14100, 1000=0,11700, 2500=0,10900, 5000=0,10100 (GBP); Link: https://www.digikey.com/es/products/detail/jst-sales-america-inc/B7B-XH-A-LF-SN/1651050?s=N4IgTCBcDaIEIHY4FoAaAJZBBAFAGQDEBKHAZQDkiQBdAXyA
footprint JST7 (CONN HEADER VERT 7POS 2.5MM)
pins: 1, 2, 3, 4, 5, 6, 7

## LC709203FQH-01TWG
designator U?
IC BATT MONITOR LI-ION 8WDFN; Manufacturer: ON Semiconductor; Manufacturer Part Number: LC709203FQH-01TWG; Number of Cells: 1; Interface: I2C; Operating Supply Voltage: 4.5V; Supplier 1: Digi-Key; RoHS: Yes; Category: Battery Management; Stock 1: 7935; Mount: Surface Mount; Number of Pins: 8; Contact Plating: Tin; Min Operating Temperature: -40°C; Max Operating Temperature: 85°C; Packaging: Tape and Reel; Package Quantity: 2000; Radiation Hardening: No; Lead Free: Lead Free; RoHS Compliant: Yes; ComponentLink1URL: http://www.farnell.com/datasheets/2236954.pdf?src-supplier=Farnell; ComponentLink1Description: http://www.farnell.com/datasheets/2236954.pdf?src-supplier=Farnell; ComponentLink2URL: http://www.mouser.com/ds/2/308/ENA2237-D-321387.pdf?src-supplier=Mouser; ComponentLink2Description: http://www.mouser.com/ds/2/308/ENA2237-D-321387.pdf?src-supplier=Mouser; ComponentLink3URL: http://www.onsemi.com/pub/Collateral/LC709203F-D.PDF?src-supplier=Digi-Key; ComponentLink3Description: http://www.onsemi.com/pub/Collateral/LC709203F-D.PDF?src-supplier=Digi-Key; ComponentLink4URL: http://www.onsemi.com/pub/Collateral/ENA2237-D.PDF?src-supplier=Avnet; ComponentLink4Description: http://www.onsemi.com/pub/Collateral/ENA2237-D.PDF?src-supplier=Avnet; ComponentLink5URL: http://www.farnell.com/datasheets/2236954.pdf?src-supplier=Newark; ComponentLink5Description: http://www.farnell.com/datasheets/2236954.pdf?src-supplier=Newark; ComponentLink6URL: http://www.farnell.com/datasheets/2236954.pdf?src-supplier=Element14; ComponentLink6Description: http://www.farnell.com/datasheets/2236954.pdf?src-supplier=Element14; ComponentLink7URL: http://www.onsemi.com/pub/Collateral/ENA2237-D.PDF?src-supplier=Avnet+Asia; ComponentLink7Description: http://www.onsemi.com/pub/Collateral/ENA2237-D.PDF?src-supplier=Avnet+Asia; Pricing 1: 1=1,73000, 10=1,54800, 25=1,46920, 100=1,20680, 250=1,12812, 500=0,99692, 1000=0,78705 (USD); Supplier Part Number 1: LC709203FQH-01TWGOSCT-ND; Link: https://www.digikey.com/es/products/detail/on-semiconductor/LC709203FQH-01TWG/4847843?s=N4IgTCBcDaIDIGEDsAGAnGFBmAYgRQAkBaFARgBUB1AcRAF0BfIA
footprint LC709203FQH (IC BATT MON LI-ION 1CELL 8WDFN)
footprint LC709203FQH_N
footprint LC709203FQH_S
pins: 1 TEST (in), 2 VSS (power), 3 VDD (power), 4 ALARMB (out), 5 TSW (out), 6 TSENSE (in), 7 SDA (io), 8 SCL (io), 9 EPAD

## LMX324IDT
designator U?  Manufacturer Part Number: LMX324IDT
OP Amp Quad GP R-R O/P 5.5V 14-Pin SOIC T/R; Manufacturer: STMicroelectronics; Common Mode Rejection Ratio: 72dB; Min Supply Voltage: 2.3V; Voltage Gain: 110dB; Gain Bandwidth Product: 1.3MHz; Slew Rate: 0.7V/µs; Number of Channels: 4; Output Current: 26mA; Nominal Supply Current: 180uA; Input Bias Current: 27nA; Input Offset Voltage (Vos): 4mV; Operating Supply Current: 130uA; Output Current per Channel: 70mA; Amplifier Type: GENERAL PURPOSE; Supplier 1: Digi-Key; RoHS: Yes; Category: Amplifiers - Op Amps, Buffer, Instrumentation; Stock 1: 1878; Mount: Surface Mount; Case/Package: SOIC; Number of Pins: 14; Min Operating Temperature: -40°C; Max Operating Temperature: 125°C; Max Supply Voltage: 5.5V; Unity Gain Bandwidth Product: 1.3MHz; Packaging: Tape and Reel; Package Quantity: 2500; Number of Circuits: 4; Number of Elements: 4; Series: -; Supply Current: 180uA; Input Offset Voltage-Max: 4mV; Slew Rate-Nom: 0.7V/µs; Radiation Hardening: No; Lead Free: Lead Free; ComponentLink1URL: https://datasheet.ciiva.com/16219/dm00050849-16219587.pdf?src-supplier=Future+Electronics; ComponentLink1Description: https://datasheet.ciiva.com/16219/dm00050849-16219587.pdf?src-supplier=Future+Electronics; ComponentLink2URL: https://datasheet.ciiva.com/2966/dm00050849-2966046.pdf?src-supplier=Avnet; ComponentLink2Description: https://datasheet.ciiva.com/2966/dm00050849-2966046.pdf?src-supplier=Avnet; Pricing 1: 1=1,26000, 10=1,12900, 25=1,07160, 100=0,88010, 250=0,82272, 500=0,72706, 1000=0,63175 (USD); Supplier Part Number 1: 497-13021-1-ND; Link: https://www.digikey.com/en/products/detail/LMX324IDT/497-13021-1-ND/3306194?itemSeq=375639467
footprint LMX324IDT (IC OPAMP GP 4 CIRCUIT 14SO)
pins: 1 OUT1 (out), 2 IN1- (in), 3 IN1+ (in), 4 VCC+ (power), 5 IN2+ (in), 6 IN2- (in), 7 OUT2 (out), 8 OUT3 (out), 9 IN3- (in), 10 IN3+ (in), 11 VCC- (power), 12 IN4+ (in), 13 IN4- (in), 14 OUT4 (out)

## MAX31856MUD+
designator U?  Supplier Part Number 1: 1904800  Manufacturer Part Number: MAX31856MUD+  Pricing 1: 96=4,87600, 192=4,03700, 288=3,94500 (GBP)
Precision Thermocouple to Digital Converter 14-Pin TSSOP Tube; Manufacturer: Maxim; Interface: SPI; Operating Supply Current: 1.2mA; Min Supply Voltage: 3V; Max Supply Voltage: 3.6V; Supplier 1: RSComponents; RoHS: Yes; Category: Temperature and Humidity Sensors; Stock 1: 1344; Mount: Surface Mount; Case/Package: TSSOP; Number of Pins: 14; Min Operating Temperature: -55°C; Max Operating Temperature: 125°C; Packaging: Rail/Tube; Output Type: Digital; RoHS Compliant: Yes; REACH SVHC: Unknown; ComponentLink1URL: http://www.farnell.com/datasheets/2025711.pdf?src-supplier=Farnell; ComponentLink1Description: http://www.farnell.com/datasheets/2025711.pdf?src-supplier=Farnell; ComponentLink2URL: https://media.digikey.com/pdf/Data%20Sheets/Maxim%20PDFs/PartNumberBreakdown_ds.pdf?src-supplier=Digi-Key; ComponentLink2Description: https://media.digikey.com/pdf/Data%20Sheets/Maxim%20PDFs/PartNumberBreakdown_ds.pdf?src-supplier=Digi-Key; ComponentLink3URL: http://datasheets.maximintegrated.com/en/ds/MAX31856.pdf?src-supplier=Avnet; ComponentLink3Description: http://datasheets.maximintegrated.com/en/ds/MAX31856.pdf?src-supplier=Avnet; ComponentLink4URL: http://www.farnell.com/datasheets/2025711.pdf?src-supplier=Newark; ComponentLink4Description: http://www.farnell.com/datasheets/2025711.pdf?src-supplier=Newark; ComponentLink5URL: http://www.farnell.com/datasheets/2002032.pdf?src-supplier=Element14; ComponentLink5Description: http://www.farnell.com/datasheets/2002032.pdf?src-supplier=Element14; Link: https://www.digikey.com/en/products/detail/MAX31856MUD%2b/MAX31856MUD%2b-ND/5050138?itemSeq=376683530
footprint MAX31856MUD+ (IC CONV THERMOCOUPLE 14TSSOP)
pins: 1 AGND (power), 2 BIAS, 3 T- (in), 4 T+ (in), 5 AVDD (power), 6 NC, 7 ~{DRDY}, 8 DVDD (power), 9 ~{CS} (in), 10 SCK (in), 11 SDO (out), 12 SDI (in), 13 ~{FAULT}, 14 DGND (power)

## MOSFET N
designator Q?, comment Mosfet N
Trans MOSFET N-CH 60V 0.115A 3-Pin SOT-23 T/R; Manufacturer: ON Semiconductor; Manufacturer Part Number: 2N7002LT1G; Continuous Drain Current (ID): 115mA; Rds On Max: 7.5R; Max Power Dissipation: 225mW; Input Capacitance: 50pF; Gate to Source Voltage (Vgs): 20V; Number of Elements: 1; Power Dissipation: 300mW; Element Configuration: Single; Turn-Off Delay Time: 40ns; Turn-On Delay Time: 20ns; Threshold Voltage: 2.5V; Supplier 1: Avnet; RoHS: Yes; Category: MOSFETs; Stock 1: 702; Case/Package: SOT-23-3; Number of Pins: 3; Contact Plating: Tin,Matte; Min Operating Temperature: -55°C; Max Operating Temperature: 150°C; Packaging: Tape and Reel; Drain to Source Voltage (Vdss): 60V; Drain to Source Resistance: 7.5R; Package Quantity: 1; Drain to Source Breakdown Voltage: 60V; On-State Resistance: 7.5R; Nominal Vgs: 2.5V; Number of Channels: 1; Voltage Rating (DC): 60V; Current Rating: 115mA; Length: 3.04mm; Width: 1.4mm; Height: 1.01mm; Radiation Hardening: No; Lead Free: Lead Free; RoHS Compliant: Yes; REACH SVHC: No SVHC; Halogen Free: Halogen Free; ComponentLink1URL: https://datasheet.ciiva.com/936/2n7002l-d-936784.pdf?src-supplier=Digi-Key; ComponentLink1Description: https://datasheet.ciiva.com/936/2n7002l-d-936784.pdf?src-supplier=Digi-Key; ComponentLink2URL: https://datasheet.ciiva.com/22749/1747988-22749570.pdf?src-supplier=Element14; ComponentLink2Description: https://datasheet.ciiva.com/22749/1747988-22749570.pdf?src-supplier=Element14; ComponentLink3URL: https://datasheet.ciiva.com/1188/97418-1188470.pdf?src-supplier=Element14; ComponentLink3Description: https://datasheet.ciiva.com/1188/97418-1188470.pdf?src-supplier=Element14; ComponentLink4URL: https://datasheet.ciiva.com/936/2n7002l-d-936785.pdf?src-supplier=Digi-Key; ComponentLink4Description: https://datasheet.ciiva.com/936/2n7002l-d-936785.pdf?src-supplier=Digi-Key; ComponentLink5URL: https://datasheet.ciiva.com/936/2n7002l-d-936786.pdf?src-supplier=Digi-Key; ComponentLink5Description: https://datasheet.ciiva.com/936/2n7002l-d-936786.pdf?src-supplier=Digi-Key; ComponentLink6URL: https://datasheet.ciiva.com/3304/2n7002l-d-3304393.pdf?src-supplier=Avnet; ComponentLink6Description: https://datasheet.ciiva.com/3304/2n7002l-d-3304393.pdf?src-supplier=Avnet; ComponentLink7URL: https://datasheet.ciiva.com/8114/2n7002l-d-8114823.pdf?src-supplier=Avnet; ComponentLink7Description: https://datasheet.ciiva.com/8114/2n7002l-d-8114823.pdf?src-supplier=Avnet; ComponentLink8URL: https://datasheet.ciiva.com/16542/2n7002l-d-16542607.pdf?src-supplier=Avnet+Asia; ComponentLink8Description: https://datasheet.ciiva.com/16542/2n7002l-d-16542607.pdf?src-supplier=Avnet+Asia; ComponentLink9URL: https://datasheet.ciiva.com/1188/97418-1188471.pdf?src-supplier=Element14; ComponentLink9Description: https://datasheet.ciiva.com/1188/97418-1188471.pdf?src-supplier=Element14; ComponentLink10URL: https://datasheet.ciiva.com/26146/2n7002l-d-26146173.pdf?src-supplier=Avnet+Europe; ComponentLink10Description: https://datasheet.ciiva.com/26146/2n7002l-d-26146173.pdf?src-supplier=Avnet+Europe; ComponentLink11URL: https://datasheet.ciiva.com/24157/2n7002l-d-24157398.pdf?src-supplier=Future+Electronics; ComponentLink11Description: https://datasheet.ciiva.com/24157/2n7002l-d-24157398.pdf?src-supplier=Future+Electronics; ComponentLink12URL: https://datasheet.ciiva.com/1254/1747988-1254500.pdf?src-supplier=Newark; ComponentLink12Description: https://datasheet.ciiva.com/1254/1747988-1254500.pdf?src-supplier=Newark; Supplier Part Number 1: 39K1536; Pricing 1: 5=0,18500, 10=0,13200, 100=0,07300 (USD); Link: https://www.digikey.com/es/products/detail/on-semiconductor/2N7002LT1G/918297
footprint Mosfet-N (2N7002)
pins: 1 G, 2 S, 3 D

## MOSFET P
designator Q?, comment Mosfet P
Single P-Channel 60 V 2 Ohm 2.38 nC SIPMOS® Small Signal Mosfet - SOT-23; Manufacturer: Infineon; Manufacturer Part Number: BSS83PH6327; Continuous Drain Current (ID): 330mA; Turn-Off Delay Time: 56ns; Gate to Source Voltage (Vgs): 20V; Rise Time: 71ns; Turn-On Delay Time: 23ns; Fall Time: 61ns; Input Capacitance: 78pF; Drain to Source Voltage (Vdss): 60V; Max Power Dissipation: 360mW; Rds On Max: 2R; Threshold Voltage: -1.5V; Supplier 1: Arrow Electronics; RoHS: Yes; Category: MOSFETs; Mount: Surface Mount; Case/Package: TO-236-3; Number of Pins: 3; Contact Plating: Tin,Matte; Min Operating Temperature: -55°C; Max Operating Temperature: 150°C; Packaging: Cut Tape; Package Quantity: 1; Series: SIPMOS®; RoHS Compliant: Yes; REACH SVHC: No SVHC; ComponentLink1URL: https://media.digikey.com/pdf/Data%20Sheets/Infineon%20PDFs/BSS83P%20H6327.pdf?src-supplier=Digi-Key; ComponentLink1Description: https://media.digikey.com/pdf/Data%20Sheets/Infineon%20PDFs/BSS83P%20H6327.pdf?src-supplier=Digi-Key; ComponentLink2URL: http://www.infineon.com/dgdl/BSS83P_Rev1+6.pdf?fileId=5546d46147a9c2e40147f7eba9ec0a51&src-supplier=Avnet; ComponentLink2Description: http://www.infineon.com/dgdl/BSS83P_Rev1+6.pdf?fileId=5546d46147a9c2e40147f7eba9ec0a51&src-supplier=Avnet; Supplier Part Number 1: BSS83PH6327XTSA1; Link: https://www.digikey.com/es/products/detail/infineon-technologies/BSS83PH6327XTSA1/2783473?s=N4IgTCBcDaIEIGUEA4DMAFAEgNlWA7CALoC%2BQA
footprint MOSFET-P (BSS83PH6327XTSA1)
pins: 1 GATE, 2 SOURCE, 3 DRAIN

## MPU6050
designator U?  Manufacturer Part Number: MPU-6050
GYROSCOPE/ACCELEROMETER, MEMS, 3AXIS, QFN-24; MEMS Module Function:Tri-Axis Gyroscope, Tri-Axis Accelerometer; Supply Voltage Min:2.375V; Supply Voltage Max:3.46V; Sensor Case Style:QFN; No. of Pins:8; Packaging:Cut Tape; MSL:- ;RoHS Compliant: Yes; Manufacturer: TDK InvenSense; Sensor Type: Accelerometer,Gyroscope,3 Axis; Output Type: I2C; Supplier 1: Digi-Key; RoHS: Yes; Category: Inertial Measurement Units (IMUs); Stock 1: 4178; Mount: Surface Mount; Case/Package: QFN; Min Operating Temperature: -40°C; Max Operating Temperature: 85°C; Packaging: Tape and Reel; Series: -; RoHS Compliant: Yes; ComponentLink1URL: https://datasheet.ciiva.com/1513/1788002-1513632.pdf?src-supplier=Element14; ComponentLink1Description: https://datasheet.ciiva.com/1513/1788002-1513632.pdf?src-supplier=Element14; ComponentLink2URL: https://datasheet.ciiva.com/22731/1788002-22731434.pdf?src-supplier=Element14; ComponentLink2Description: https://datasheet.ciiva.com/22731/1788002-22731434.pdf?src-supplier=Element14; Supplier Part Number 1: 1428-1007-1-ND; Pricing 1: 1=10,70000, 5=6,95000, 10=6,25500, 25=5,56000, 50=5,14300, 100=4,44800, 500=4,17000, 1000=3,89200 (USD); Link: https://www.digikey.com/es/products/detail/tdk-invensense/MPU-6050/4038009
footprint MPU6050
pins: 1 CLKIN (in) "Optional external reference clock input. Connect to GND if unused.", 2 NC "Not internally connected. May be used for PCB trace routing", 3 NC "Not internally connected. May be used for PCB trace routing", 4 NC "Not internally connected. May be used for PCB trace routing", 5 NC "Not internally connected. May be used for PCB trace routing", 6 AUX_DA (io) "I2C master serial data, for connecting to external sensors", 7 AUX_CL (out) "I2C Master serial clock, for connecting to external sensors", 8 VLOGIC (power) "Digital I/O supply voltage", 9 AD0 (in) "I2C Slave Address LSB (AD0)", 10 REGOUT "Regulator filter capacitor connection", 11 FSYNC (in) "Frame synchronization digital input. Connect to GND if unused.", 12 INT (oc) "Interrupt digital output (totem pole or open-drain)", 13 VDD (power) "Power supply voltage and Digital I/O supply voltage", 14 NC "Not internally connected. May be used for PCB trace routing", 15 NC "Not internally connected. May be used for PCB trace routing", 16 NC "Not internally connected. May be used for PCB trace routing", 17 NC "Not internally connected. May be used for PCB trace routing", 18 GND (power) "Power supply ground", 19 RESV "Reserved. Do not connect", 20 CPOUT "Charge pump capacitor connection", 21 RESV "Reserved. Do not connect", 22 CLKOUT (out) "System clock output", 23 SCL (in) "System clock output  I2C serial clock (SCL)", 24 SDA (io) "I2C serial data (SDA)", 25 EP (power) "Exposed Pad"